# Altium schematic symbol library fastcar.SchLib: 33 symbols
Pins are listed as number, name and electrical type; pins without a type are passive.

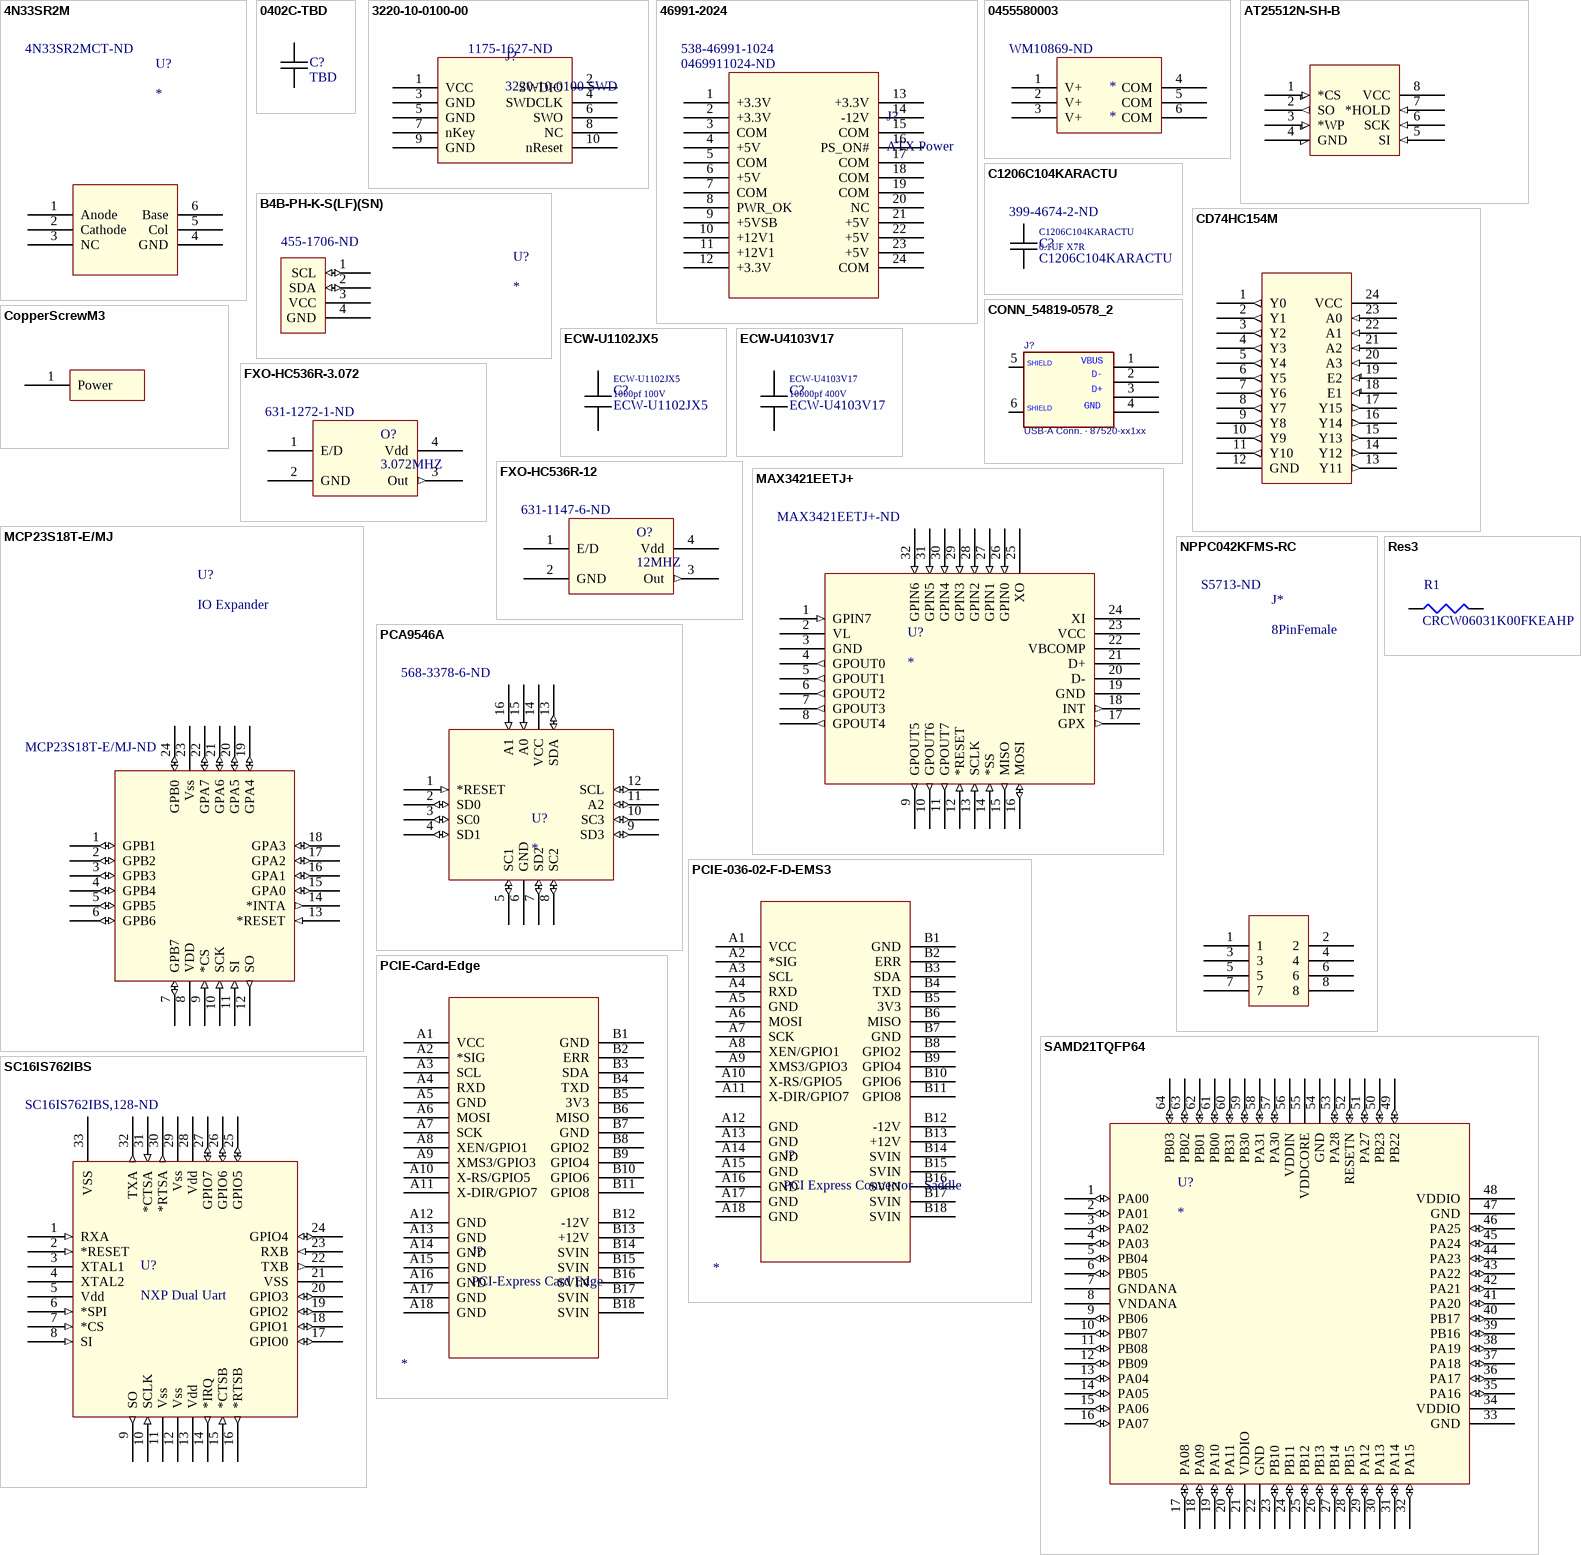
[diagram p0: symbols 4N33SR2M to SC16IS762IBS]

## 4N33SR2M
designator U?  Supplier Part Number 1: 4N33SR2MCT-ND
Supplier 1: Digi-Key
footprint 4N33-Vishay-6Lead (SOP, 6-Leads, Body 8.52x6.35mm, Pitch 2.54mm, IPC Medium Density)
pins: 1 Anode, 2 Cathode "Cathod", 3 NC, 4 GND (power), 5 Col "Output", 6 Base

## 0402C-TBD
designator C?, comment TBD
CAPACITOR 0402 CERAMIC
footprint 0402C-TBD (Footprint not found)
pins: 1, 2

## 3220-10-0100-00
designator J?, comment 3220-10-0100 SWD  Supplier Part Number 1: 1175-1627-ND
HiRose 3220-10-0100 BOX HEADER, 0.050 10 POS; Supplier 1: Digi-Key
footprint 3220-10-0100
pins: 1 VCC, 2 SWDIO "GND", 3 GND, 4 SWDCLK "GND", 5 GND, 6 SWO "SWD", 7 nKey, 8 NC, 9 GND, 10 nReset

## 46991-2024
designator J?, comment ATX Power  Supplier Part Number 1: 0469911024-ND  Supplier Part Number 2: 538-46991-1024
Mini-Fit JR LCP RA HDR NOPEG 24C; Supplier 1: Digi-Key; Supplier 2: Mouser
footprint 46991-1024 (MINIFIT RTC Right Angle Header W/O PEG)
pins: 1 +3.3V (power), 2 +3.3V (power), 3 COM (power), 4 +5V (power), 5 COM (power), 6 +5V (power), 7 COM (power), 8 PWR_OK, 9 +5VSB, 10 +12V1, 11 +12V1, 12 +3.3V, 13 +3.3V, 14 -12V, 15 COM (power), 16 PS_ON#, 17 COM (power), 18 COM (power), 19 COM (power), 20 NC, 21 +5V, 22 +5V (power), 23 +5V (power), 24 COM (power)

## 0455580003
designator *  Supplier Part Number 1: WM10869-ND
Supplier 1: Digi-Key
footprint 45558 (6 CKT R/A Header Mini Fit Jr PCI-E Power)
pins: 1 V+ (power), 2 V+ (power), 3 V+ (power), 4 COM (power), 5 COM (power), 6 COM (power)

## AT25512N-SH-B
designator U?, comment AT25512  Supplier Part Number 1: AT25512N-SH-B-ND
IC EEPROM 512KBIT 20MHZ 8SOIC ATMEL; Supplier 1: Digi-Key
footprint SOIC127P600X25-8N (SOIC, 8-Leads, Body 4.92x5.95mm, Pitch 1.27mm, IPC Medium Density)
pins: 1 *CS (in), 2 SO (out) "*CS", 3 *WP (in), 4 GND (power), 5 SI (in), 6 SCK (in), 7 *HOLD (in), 8 VCC (power)

## B4B-PH-K-S(LF)(SN)
designator U?  Supplier Part Number 1: 455-1706-ND
Supplier 1: Digi-Key
footprint B4B-PH-K-S(LF)(SN) (CONN HEADER PH TOP 4POS 2MM)
pins: 1 SCL (io), 2 SDA (io), 3 VCC (power) "Power", 4 GND (power)

## C1206C104KARACTU
designator C?  value 0.1UF X7R  Supplier Part Number 1: 399-4674-2-ND
CER 0.1UF 250V 10% X7R 1206; Supplier 1: Digi-Key; PartNo: C1206C104KARACTU
footprint 1206C-GENERIC
pins: 1, 2

## CD74HC154M
designator U?, comment 4to16 Decoder
TI 4to16 Line Decoder/Demux
footprint SOIC127P1030X265-24N (SOIC, 24-Leads, Body 15.40x7.50mm, Pitch 1.27mm, IPC Medium Density)
pins: 1 Y0 (out), 2 Y1 (out) "Y0", 3 Y2 (out), 4 Y3 (out) "Y2", 5 Y4 (out) "Y2", 6 Y5 (out) "Y2", 7 Y6 (out) "Y2", 8 Y7 (out) "Y2", 9 Y8 (out) "Y2", 10 Y9 (out) "Y2", 11 Y10 (out) "Y2", 12 GND (power), 13 Y11 (out), 14 Y12 (out) "Y11", 15 Y13 (out) "Y11", 16 Y14 (out) "Y11", 17 Y15 (out) "Y11", 18 E1 (in), 19 E2 (in) "E1", 20 A3 (in), 21 A2 (in), 22 A1 (in), 23 A0 (in), 24 VCC (power)

## CONN_54819-0578_2
designator J?, comment USB-A Conn. - 87520-xx1xx
CONN RCPT USB TYPE A R/A PCB; Manufacturer: FCI; Manufacturer Part Number: 87520-0010BLF; CLASS: IO; TN: 224-0234-000; Number of Contacts: 4; Gender: Receptacle; Specifications: USB 2.0; Supplier 1: Digi-Key; Supplier Part Number 1: 609-1045-ND; RoHS: RoHS Compliant; Category: Connectors, Interconnects; Stock 1: 4363; Pricing 1: 1=0.78, 10=0.734, 25=0.6604, 50=0.587, 100=0.5626, 250=0.51368, 500=0.4892, 1000=0.40359, 2500=0.3669 (USD); Connector Type: USB - A; Mounting Type: Through Hole, Right Angle, Horizontal; Features: Board Lock; Packaging: Tube; Ingress Protection: -; ComponentLink1URL: http://portal.fciconnect.com/Comergent//fci/drawing/87520.pdf; ComponentLink1Description: http://portal.fciconnect.com/Comergent//fci/drawing/87520.pdf
footprint usb_a_sh
pins: 1 P1, 2 P2, 3 P3, 4 P4, 5 SHELD1, 6 PAD4
text: SHIELD; VBUS; D-; D+; GND

## CopperScrewM3
designator J?  (value not drawn)
footprint M3Screw (M3ScrewHole)
pins: 1 Power "PowerInputScrew"

## ECW-U1102JX5
designator C?  value 1000pf 100V
CAP FILM 1000PF 5% 100VDC 1206; Supplier 1: Digi-Key; Supplier Part Number 1: PCF1348DKR-ND; PartNo: ECW-U1102JX5
footprint 1206R-GENERIC
pins: 1 +, 2 -

## ECW-U4103V17
designator C?  value 10000pf 400V
CAP FILM 10000PF 5% 400VDC 1913; Supplier 1: Digi-Key; Supplier Part Number 1: PCF1426DKR-ND; PartNo: ECW-U4103V17
footprint 1913-X-GENERIC
pins: 1 +, 2 -

## FXO-HC536R-3.072
designator O?, comment 3.072MHZ  Supplier Part Number 1: 631-1272-1-ND
OSCILLATOR XO 3.072MHZ HCMOS SMD; Supplier 1: Digi-Key
footprint SON254P340X265-4N (SON, 4-Leads, Body 5.15x3.35mm, Pitch 2.54mm, IPC Medium Density)
pins: 1 E/D "Enable (Internal Pullup)", 2 GND (power) "Ground", 3 Out (out) "Output", 4 Vdd (power)

## FXO-HC536R-12
designator O?, comment 12MHZ  Supplier Part Number 1: 631-1147-6-ND
OSCILLATOR XO 12MHZ HCMOS SMD; Supplier 1: Digi-Key
footprint SON254P340X265-4N (SON, 4-Leads, Body 5.15x3.35mm, Pitch 2.54mm, IPC Medium Density)
pins: 1 E/D "Enable (Internal Pullup)", 2 GND (power) "Ground", 3 Out (out) "Output", 4 Vdd (power)

## MAX3421EETJ+
designator U?  Supplier Part Number 1: MAX3421EETJ+-ND
Supplier 1: Digi-Key
footprint PQFN50P500X500X100_HS-33N (PQFN, 32-Leads, Body 5.00x5.00mm, Pitch 0.50mm, Thermal Pad 3.10x3.10mm, IPC Medium Density)
pins: 1 GPIN7 (in), 2 VL (power) "VCC", 3 GND (power), 4 GPOUT0 (out) "General Output", 5 GPOUT1 (out) "General Output", 6 GPOUT2 (out) "General Output", 7 GPOUT3 (out) "General Output", 8 GPOUT4 (out) "General Output", 9 GPOUT5 (out) "General Output", 10 GPOUT6 (out) "General Output", 11 GPOUT7 (out) "General Output", 12 *RESET (in) "Reset", 13 SCLK (in), 14 *SS (in), 15 MISO (out), 16 MOSI (io) "MISO", 17 GPX (out), 18 INT (out), 19 GND (power), 20 D-, 21 D+, 22 VBCOMP "D+", 23 VCC (power), 24 XI, 25 XO, 26 GPIN0 (in) "GPIN", 27 GPIN1 (in) "GPIN", 28 GPIN2 (in) "GPIN", 29 GPIN3 (in) "GPIN", 30 GPIN4 (in) "GPIN", 31 GPIN5 (in) "GPIN", 32 GPIN6 (in) "GPIN"

## MCP23S18T-E/MJ
designator U?, comment IO Expander  Supplier Part Number 1: MCP23S18T-E/MJ-ND
Microchip 16-Bit IO Expander with Open Drain Outputs; Supplier 1: Digi-Key
footprint PQFN50P400X400X90_HS-25N (PQFN, 24-Leads, Body 4.00x4.00mm, Pitch 0.50mm, Thermal Pad 2.50x2.50mm, IPC Medium Density)
pins: 1 GPB1 (io), 2 GPB2 (io) "GPB1", 3 GPB3 (io) "GPB1", 4 GPB4 (io) "GPB1", 5 GPB5 (io) "GPB1", 6 GPB6 (io) "GPB1", 7 GPB7 (io) "GPB1", 8 VDD (power), 9 *CS (in), 10 SCK (in), 11 SI (in), 12 SO (out), 13 *RESET (in), 14 *INTA (out), 15 GPA0 (io), 16 GPA1 (io) "GPA0", 17 GPA2 (io) "GPA0", 18 GPA3 (io) "GPA0", 19 GPA4 (io) "GPA0", 20 GPA5 (io) "GPA0", 21 GPA6 (io) "GPA0", 22 GPA7 (io) "GPA0", 23 Vss (power), 24 GPB0 (io) "BPB0"

## NPPC042KFMS-RC
designator J*, comment 8PinFemale  Supplier Part Number 1: S5713-ND
Connector Header 8 Position 0.100" (2.54mm) Gold Surface Mount; Supplier 1: Digi-Key
footprint SOP254P740X760-8N (SOP, 8-Leads, Body 10.66x5.03mm, Pitch 2.54mm, IPC Medium Density)
pins: 1, 2, 3, 4, 5, 6, 7, 8

## PCA9546A
designator U?  Supplier Part Number 1: 568-3378-6-ND
Supplier 1: Digi-Key
footprint S-PVQFN-N16 (Footprint for NXP)
pins: 1 *RESET (in), 2 SD0 (io) "SD", 3 SC0 (io) "SC", 4 SD1 (io) "SD", 5 SC1 (io) "SC", 6 GND (power), 7 SD2 (io) "SD", 8 SC2 (io) "SC", 9 SD3 (io) "SD", 10 SC3 (io) "SD", 11 A2 (io) "A", 12 SCL (io), 13 SDA (io), 14 VCC (power), 15 A0 (in), 16 A1 (in) "A0"

## PCIE-036-02-F-D-EMS3
designator J?, comment PCI Express Connector - Saddle
Samtec PCIE-036-02-F-D-EMS3
footprint PCIE-036-02-F-D-EMS3 (Samtec 36 Pin Saddle PCI-Express Connector PCIE-036-02-F-D-EMS3)
pins: A1 VCC (power), A2 *SIG, A3 SCL (oc) "*SIG", A4 RXD, A5 GND (power), A6 MOSI, A7 SCK, A8 XEN/GPIO1, A9 XMS3/GPIO3, A10 X-RS/GPIO5, A11 X-DIR/GPIO7, A12 GND (power), A13 GND (power), A14 GND (power), A15 GND (power), A16 GND (power), A17 GND (power), A18 GND (power), B1 GND (power), B2 ERR, B3 SDA, B4 TXD, B5 3V3 (power), B6 MISO "SPI MISO", B7 GND (power), B8 GPIO2, B9 GPIO4, B10 GPIO6, B11 GPIO8, B12 -12V (power), B13 +12V (power) "-12V", B14 SVIN (power) "24-48Volts", B15 SVIN (power) "24-48Volts", B16 SVIN (power) "24-48Volts", B17 SVIN (power) "24-48Volts", B18 SVIN (power) "24-48Volts"

## PCIE-Card-Edge
designator J?, comment PCI-Express Card Edge
footprint PCI Express Card 1x (Single Lane PCI Express Card Edge Connector)
pins: A1 VCC (power), A2 *SIG, A3 SCL (oc) "*SIG", A4 RXD, A5 GND (power), A6 MOSI, A7 SCK, A8 XEN/GPIO1, A9 XMS3/GPIO3, A10 X-RS/GPIO5, A11 X-DIR/GPIO7, A12 GND (power), A13 GND (power), A14 GND (power), A15 GND (power), A16 GND (power), A17 GND (power), A18 GND (power), B1 GND (power), B2 ERR, B3 SDA, B4 TXD, B5 3V3 (power), B6 MISO "SPI MISO", B7 GND (power), B8 GPIO2, B9 GPIO4, B10 GPIO6, B11 GPIO8, B12 -12V (power), B13 +12V (power) "-12V", B14 SVIN (power) "24-48Volts", B15 SVIN (power) "24-48Volts", B16 SVIN (power) "24-48Volts", B17 SVIN (power) "24-48Volts", B18 SVIN (power) "24-48Volts"

## Res3
designator R1, comment CRCW06031K00FKEAHP
Resistor 1K 1% 0603 CRCW06031K00FKEAHP; Published: 8-Jun-2000; LatestRevisionDate: 29-May-2009; LatestRevisionNote: IPC-7351 Footprint Added.; PackageReference: J1-0603; Publisher: Altium Limited; PackageDescription: Chip Resistor; Value: 1K
footprint J1-0603 (Chip Resistor, Body 1.6x0.8mm, IPC High Density)
footprint 14-1210 (Chip Resistor, Body 3.2x2.5mm, IPC High Density)
footprint 12Z-2010 (Chip Resistor, Body 5.0x2.5mm, IPC High Density)
footprint RESC6332 (Chip Resistor, Body 6.3x3.2mm, IPC High Density)
simulation model RESISTOR (Resistor)
signal-integrity model Res
pins: 1, 2

## SAMD21TQFP64
designator U?
footprint TSQFP50P1300X1300X120-64N (TSQFP, 64-Leads, Body 10.00x10.00mm, Pitch 0.50mm, IPC Medium Density)
pins: 1 PA00 (io), 2 PA01 (io), 3 PA02 (io), 4 PA03 (io), 5 PB04 (io), 6 PB05 (io), 7 GNDANA (power), 8 VNDANA (power) "24-48Volts", 9 PB06 (io), 10 PB07 (io), 11 PB08 (io), 12 PB09 (io), 13 PA04 (io), 14 PA05 (io), 15 PA06 (io), 16 PA07 (io), 17 PA08 (io), 18 PA09 (io), 19 PA10 (io), 20 PA11 (io), 21 VDDIO (power), 22 GND (power), 23 PB10 (io), 24 PB11 (io), 25 PB12 (io), 26 PB13 (io), 27 PB14 (io), 28 PB15 (io), 29 PA12 (io), 30 PA13 (io), 31 PA14 (io), 32 PA15 (io), 33 GND (power), 34 VDDIO (power), 35 PA16 (io), 36 PA17 (io), 37 PA18 (io), 38 PA19 (io), 39 PB16 (io), 40 PB17 (io), 41 PA20 (io), 42 PA21 (io), 43 PA22 (io), 44 PA23 (io), 45 PA24 (io), 46 PA25 (io), 47 GND (power), 48 VDDIO (power), 49 PB22 (io), 50 PB23 (io), 51 PA27 (io), 52 RESETN (io), 53 PA28 (io), 54 GND (power), 55 VDDCORE (power), 56 VDDIN (power), 57 PA30 (io), 58 PA31 (io), 59 PB30 (io), 60 PB31 (io), 61 PB00 (io), 62 PB01 (io), 63 PB02 (io), 64 PB03 (io)

## SC16IS762IBS
designator U?, comment NXP Dual Uart  Supplier Part Number 1: SC16IS762IBS,128-ND
Dual Uart with SPI Interface, 15Mbits SPI; Supplier 1: Digi-Key
footprint PQFN50P500X500X100_HS-33N (PQFN, 32-Leads, Body 5.00x5.00mm, Pitch 0.50mm, Thermal Pad 3.10x3.10mm, IPC Medium Density)
pins: 1 RXA (in), 2 *RESET (in) "RXA", 3 XTAL1, 4 XTAL2 "XTAL1", 5 Vdd (power), 6 *SPI (in) "Select SPI Mode", 7 *CS (in) "ChipSelect", 8 SI (in), 9 SO (out), 10 SCLK (in), 11 Vss (power), 12 Vss (power), 13 Vdd (power), 14 *IRQ (out) "IRQ", 15 *CTSB (in), 16 *RTSB (out), 17 GPIO0 (io), 18 GPIO1 (io) "GPIO0", 19 GPIO2 (io) "GPIO0", 20 GPIO3 (io) "GPIO0", 21 VSS (power), 22 TXB (out), 23 RXB (in), 24 GPIO4 (io), 25 GPIO5 (io), 26 GPIO6 (io), 27 GPIO7 (io), 28 Vdd (power), 29 Vss (power), 30 *RTSA (out), 31 *CTSA (in), 32 TXA (out), 33 VSS (power)

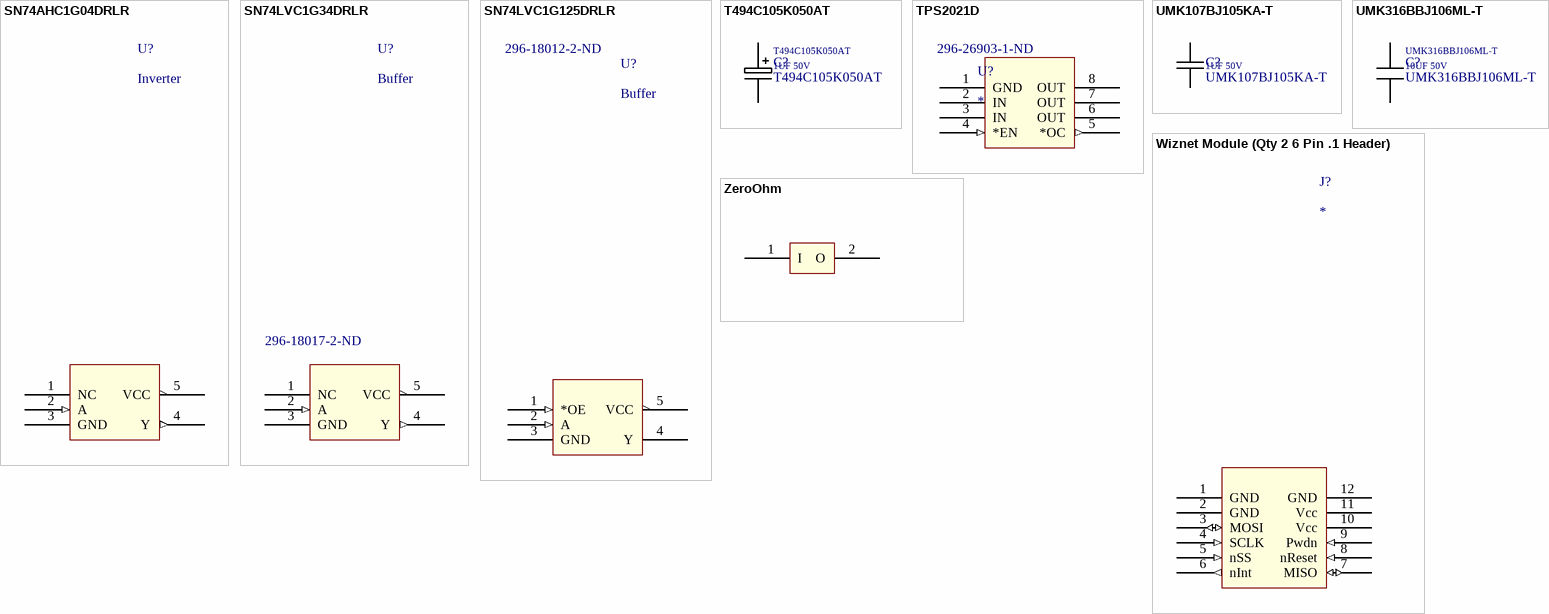
[diagram p1: symbols SN74AHC1G04DRLR to ZeroOhm]

## SN74AHC1G04DRLR
designator U?, comment Inverter
SN74AHC1G04DRLR Tinylogic Inverter SOT-5 DRL Package
footprint SOTFL50P160X60-5N (SOTFL, 5-Leads, Body 1.60x1.60mm, Pitch 0.50mm, IPC Medium Density)
pins: 1 NC, 2 A (in), 3 GND (power), 4 Y (out), 5 VCC (power)

## SN74LVC1G34DRLR
designator U?, comment Buffer  Supplier Part Number 1: 296-18017-2-ND
SN74LVC1G34DRLR Tinylogic Buffer SOT-5 DRL Package; Supplier 1: Digi-Key
footprint SOTFL50P160X60-5N (SOTFL, 5-Leads, Body 1.60x1.60mm, Pitch 0.50mm, IPC Medium Density)
pins: 1 NC, 2 A (in), 3 GND (power), 4 Y (out), 5 VCC (power)

## SN74LVC1G125DRLR
designator U?, comment Buffer  Supplier Part Number 1: 296-18012-2-ND
SN74LVC1G125DRLR Tinylogic Tristate Buffer SOT-5 DRL Package; Supplier 1: Digi-Key
footprint SOTFL50P160X60-5N (SOTFL, 5-Leads, Body 1.60x1.60mm, Pitch 0.50mm, IPC Medium Density)
pins: 1 *OE (in) "NC", 2 A (in), 3 GND (power), 4 Y (hiz), 5 VCC (power)

## T494C105K050AT
designator C?  value 1UF 50V
CAP TANT 1UF 50V 10% 2413; Supplier 1: Digi-Key; Supplier Part Number 1: 399-10241-6-ND; PartNo: T494C105K050AT
footprint 2413
pins: 1 -, 2 +

## TPS2021D
designator U?  Supplier Part Number 1: 296-26903-1-ND
IC 0.9A PWR DIST SWITCH 8-SOIC TI; Supplier 1: Digi-Key
footprint SOIC127P600X175_HS-9N (SOIC, 8-Leads, Body 4.90x3.90mm, Pitch 1.27mm, Thermal Pad 4.00x3.00mm, IPC Medium Density)
pins: 1 GND (power), 2 IN (power), 3 IN (power), 4 *EN (in), 5 *OC (out), 6 OUT (power), 7 OUT (power), 8 OUT (power)

## UMK107BJ105KA-T
designator C?  value 1UF 50V
CAP CER 1UF 50V 10% X5R 0603; Supplier 1: Digi-Key; PartNo: UMK107BJ105KA-T; Supplier Part Number 1: 587-2400-6-ND
footprint 0603C-2U2 (CAPACITOR 0603)
pins: 1, 2

## UMK316BBJ106ML-T
designator C?  value 10UF 50V
CAP CER 10UF 50V 20% X5R 1206; Supplier 1: Digi-Key; Supplier Part Number 1: 587-3248-6-ND; PartNo: UMK316BBJ106ML-T
footprint 1206R-GENERIC
pins: 1 -, 2 +

## Wiznet Module (Qty 2 6 Pin .1 Header)
designator J?
footprint WIZ820io
pins: 1 GND (power) "Gnd", 2 GND (power) "Gnd", 3 MOSI (io), 4 SCLK (in), 5 nSS (in), 6 nInt (out), 7 MISO (io), 8 nReset (in), 9 Pwdn (in), 10 Vcc (power), 11 Vcc (power), 12 GND (power)

## ZeroOhm
designator *
footprint ZeroResistor
pins: 1 I "1", 2 O